# EAGLE library part TPS54526 (library servoboard)
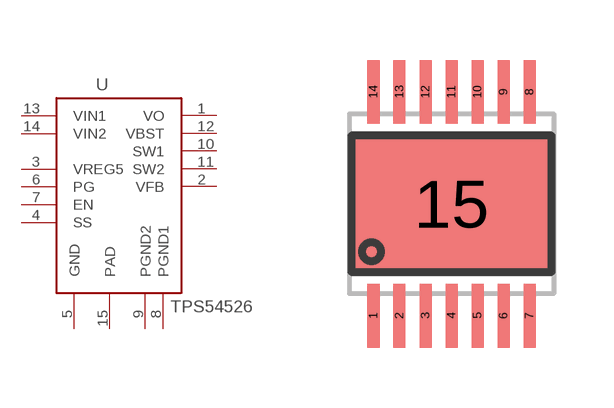
[diagram p1: symbol with the pads of PWP-R-PDSO-G14; footprint PWP-R-PDSO-G14]

Designator prefix -

## TPS54526PWP  [PWP-R-PDSO-G14]
1  VO  pwr
2  VFB
3  VREG5
4  SS
5  GND  pwr
6  PG
7  EN
8  PGND1  pwr
9  PGND2  pwr
10  SW1
11  SW2
12  VBST
13  VIN1  pwr
14  VIN2  pwr
15  PAD  pwr

## Footprint PWP-R-PDSO-G14 (pad centres in mm)
smd 0.3 x 1.6: 1 -1.95,-2.8; 2 -1.3,-2.8; 3 -0.65,-2.8; 4 0,-2.8; 5 0.65,-2.8; 6 1.3,-2.8; 7 1.95,-2.8; 8 1.95,2.8; 9 1.3,2.8; 10 0.65,2.8; 11 0,2.8; 12 -0.65,2.8; 13 -1.3,2.8; 14 -1.95,2.8
smd 5 x 3.4: 15 0,0